# Altium integrated library SJ2-35043C-SMT-TR.IntLib: 1 symbol
Pins are listed as number, name and electrical type; pins without a type are passive.

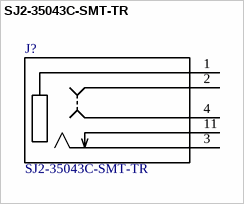
[diagram p0: symbol SJ2-35043C-SMT-TR]

## SJ2-35043C-SMT-TR
designator J?
Value: *
footprint CUI_SJ2-35043C-SMT-TR
pins: 1 SLEEVE, 2 TIP_1, 3 RING, 4 TIP_2, 11 RING_SWITCH